# Altium schematic symbol library Biometryczny_system_RCP_Jazłowiecki_Sem5.SCHLIB: 12 symbols
Pins are listed as number, name and electrical type; pins without a type are passive.

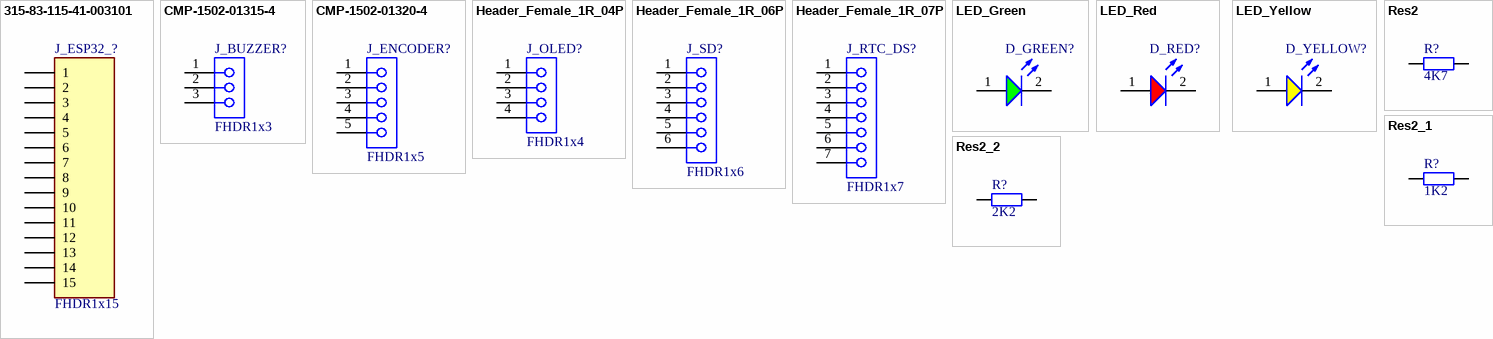
[diagram p0: symbols 315-83-115-41-003101 to Res2_2]

## 315-83-115-41-003101
designator J_ESP32_?, comment FHDR1x15
15 Position Socket Connector 0.100" (2.54mm) Through Hole Gold; Manufacturer_Name: Preci-Dip; Manufacturer_Part_Number: 315-83-115-41-003101; Geometry.Height: 2.41mm; Mouser Part Number: *; Mouser Price/Stock: *; Datasheet Link: https://www.precidip.com/pview/315-PP-1NN-41-003101.html?hkey=EF798316E3902B6ED9A73243A3159BB0
footprint RHDR15W78P0X254_1X15_3810X254X241P
pins: 1, 2, 3, 4, 5, 6, 7, 8, 9, 10, 11, 12, 13, 14, 15

## CMP-1502-01315-4
designator J_BUZZER?, comment FHDR1x3
Btb Conn, Rcpt, 3Pos, 1Row, 2.54Mm Rohs Compliant: Yes; Current Rating: 3A; Operating Supply Voltage: 250V; Contact Resistance: 20mΩ; Gender: Female; Number of Pins: 3; Lead Pitch: 2.54mm; RoHS: Non-Compliant; Orientation: Vertical
footprint 61300311821 (Btb Conn, Rcpt, 3Pos, 1Row, 2.54Mm Rohs Compliant: Yes)
pins: 1, 2, 3

## CMP-1502-01320-4
designator J_ENCODER?, comment FHDR1x5
THT Vertical Socket Header WR-PHD, Pitch 2.54 mm, Single Row, 5 pins; Gender: Female; Contact Resistance: 20mΩ; Operating Supply Voltage: 250V; Current Rating: 3A; Number of Pins: 5; Lead Pitch: 2.54mm; Orientation: Vertical
footprint 61300511821 (THT Vertical Socket Header WR-PHD, Pitch 2.54 mm, Single Row, 5 pins)
pins: 1, 2, 3, 4, 5

## Header_Female_1R_04P
designator J_OLED?, comment FHDR1x4
THT Vertical Socket Header WR-PHD, Pitch 2.54 mm, Single Row, 4 pins; Current Rating: 3A; Gender: Female; Contact Resistance: 20mΩ; Operating Supply Voltage: 250V; Number of Pins: 4; Lead Pitch: 2.54mm; Orientation: Vertical
footprint 61300411821 (THT Vertical Socket Header WR-PHD, Pitch 2.54 mm, Single Row, 4 pins)
pins: 1, 2, 3, 4

## Header_Female_1R_06P
designator J_SD?, comment FHDR1x6
THT Vertical Socket Header WR-PHD, Pitch 2.54 mm, Single Row, 6 pins; Current Rating: 3A; Contact Resistance: 20mΩ; Gender: Female; Operating Supply Voltage: 250V; RoHS: Compliant; Orientation: Vertical; Number of Pins: 6; Lead Pitch: 2.54mm
footprint 61300611821 (THT Vertical Socket Header WR-PHD, Pitch 2.54 mm, Single Row, 6 pins)
pins: 1, 2, 3, 4, 5, 6

## Header_Female_1R_07P
designator J_RTC_DS?, comment FHDR1x7
Btb Conn, Rcpt, 7Pos, 1Row, 2.54Mm Rohs Compliant: Yes; Gender: Female; Operating Supply Voltage: 250V; Current Rating: 3A; Contact Resistance: 20mΩ; Lead Pitch: 2.54mm; RoHS: Non-Compliant; Orientation: Vertical; Number of Pins: 7
footprint 61300711821 (Btb Conn, Rcpt, 7Pos, 1Row, 2.54Mm Rohs Compliant: Yes)
pins: 1, 2, 3, 4, 5, 6, 7

## LED_Green
designator D_GREEN?, comment 151051VS04000  (value not drawn)
151051VS04000 5mm Green LED 2.1V 30mA 140mcd 40°; NexarPartId: 29717814; Max Reverse Voltage (DC): 5V; Wavelength: 572nm; Forward Current: 100mA; Peak Wavelength: 573nm; Test Current: 20mA; Lens Style: Circular, Diffused, Round; Forward Voltage: 2.1V; Viewing Angle: 40°; Lens Size: 5mm; Luminous Intensity: 140mcd; Color: Green; REACH SVHC: Unknown; Height: 8.6mm; Mount: Through Hole; Width: 5mm; Length: 5mm; Min Operating Temperature: -40°C; RoHS: Compliant; Dominant Wavelength: 572nm; Case/Package: Radial; Max Operating Temperature: 85°C; Packaging: Bulk
footprint WL-TMRC_D5.9H8.7 (Single Color LED, Blue, Diffused, T-1 3/4, 4.9mm)
pins: 1 A, 2 K

## LED_Red
designator D_RED?, comment 151051RS11000  (value not drawn)
WL-TMRC Red Color Diffused 5 mm Round Through Hole LED; NexarPartId: 29717813; Lens Style: Circular, Diffused, Round; Lens Size: 5mm; Forward Voltage: 2.1V; Peak Wavelength: 650nm; Forward Current: 100mA; Viewing Angle: 60°; Wavelength: 630nm; Test Current: 20mA; Dominant Wavelength: 645nm; Luminous Intensity: 30mcd; Max Reverse Voltage (DC): 5V; Height: 8.6mm; Length: 5mm; Min Operating Temperature: -40°C; Max Operating Temperature: 85°C; Packaging: Bulk; REACH SVHC: Unknown; Color: Red; Case/Package: Radial; RoHS: Compliant; Width: 5mm; Mount: Through Hole
footprint WL-TMRC_D5.9H8.7 (Single Color LED, Blue, Diffused, T-1 3/4, 4.9mm)
pins: 1 A, 2 K

## LED_Yellow
designator D_YELLOW?, comment 151051YS04000  (value not drawn)
WL-TMRC THT Mono-color Round Color; NexarPartId: 29717815; Wavelength: 590nm; Viewing Angle: 40°; Forward Current: 100mA; Lens Style: Circular, Diffused, Round; Luminous Intensity: 450mcd; Max Reverse Voltage (DC): 5V; Peak Wavelength: 592nm; Lens Size: 5mm; Test Current: 20mA; Forward Voltage: 2V; Height: 8.6mm; REACH SVHC: Unknown; Case/Package: Radial; Min Operating Temperature: -40°C; Packaging: Bulk; Width: 5mm; Mount: Through Hole; Length: 5mm; Max Operating Temperature: 85°C; Color: Yellow; Dominant Wavelength: 590nm; RoHS: Compliant
footprint WL-TMRC_D5.9H8.7 (Single Color LED, Blue, Diffused, T-1 3/4, 4.9mm)
pins: 1 A, 2 K

## Res2
designator R?  value 4K7  (hidden comment: Res2)
Resistor; Published: 8-Jun-2000; LatestRevisionDate: 17-Jul-2002; LatestRevisionNote: Re-released for DXP Platform.; PackageReference: AXIAL-0.4; Publisher: Altium Limited; PackageDescription: Axial Device, Thru-Hole; 2 Leads; 0.4 in Pin Spacing
footprint AXIAL-0.4 (Axial Device, Thru-Hole; 2 Leads; 0.4 in Pin Spacing)
simulation model RESISTOR (Resistor)
signal-integrity model Res
pins: 1, 2

## Res2_1
designator R?, comment value 1K2  (hidden comment: Res2)
Resistor; Published: 8-Jun-2000; LatestRevisionDate: 17-Jul-2002; LatestRevisionNote: Re-released for DXP Platform.; PackageReference: AXIAL-0.4; Publisher: Altium Limited; PackageDescription: Axial Device, Thru-Hole; 2 Leads; 0.4 in Pin Spacing
footprint AXIAL-0.4 (Axial Device, Thru-Hole; 2 Leads; 0.4 in Pin Spacing)
simulation model RESISTOR (Resistor)
signal-integrity model Res
pins: 1, 2

## Res2_2
designator R?, comment value 2K2  (hidden comment: Res2)
Resistor; Published: 8-Jun-2000; LatestRevisionDate: 17-Jul-2002; LatestRevisionNote: Re-released for DXP Platform.; PackageReference: AXIAL-0.4; Publisher: Altium Limited; PackageDescription: Axial Device, Thru-Hole; 2 Leads; 0.4 in Pin Spacing
footprint AXIAL-0.4 (Axial Device, Thru-Hole; 2 Leads; 0.4 in Pin Spacing)
simulation model RESISTOR (Resistor)
signal-integrity model Res
pins: 1, 2